# Altium schematic symbol library AK5572EN.SchLib: 1 symbol
Pins are listed as number, name and electrical type; pins without a type are passive.

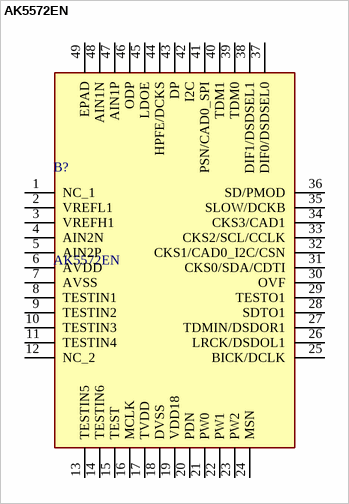
[diagram p0: symbol AK5572EN]

## AK5572EN
designator B?
IC ADC/AUDIO 32BIT 768K 48QFN; Manufacturer_Name: Asahi Kasei Microdevices; Geometry.Height: 1mm; Manufacturer_Part_Number: AK5572EN; Mouser Part Number: 412-AK5572EN; Mouser Price/Stock: https://www.mouser.co.uk/ProductDetail/Asahi-Kasei-Microdevices/AK5572EN?qs=vvQtp7zwQdN5nUCcqQXzfA%3D%3D; Arrow Part Number: AK5572EN; Arrow Price/Stock: https://www.arrow.com/en/products/ak5572en/asahi-kasei-microdevices-corporation?utm_currency=USD&region=nac; Datasheet Link: https://www.akm.com/akm/en/file/datasheet/AK5572EN.pdf
footprint QFN50P700X700X100-49N-D
pins: 1 NC_1, 2 VREFL1, 3 VREFH1, 4 AIN2N, 5 AIN2P, 6 AVDD, 7 AVSS, 8 TESTIN1, 9 TESTIN2, 10 TESTIN3, 11 TESTIN4, 12 NC_2, 13 TESTIN5, 14 TESTIN6, 15 TEST, 16 MCLK, 17 TVDD, 18 DVSS, 19 VDD18, 20 PDN, 21 PW0, 22 PW1, 23 PW2, 24 MSN, 25 BICK/DCLK, 26 LRCK/DSDOL1, 27 TDMIN/DSDOR1, 28 SDTO1, 29 TESTO1, 30 OVF, 31 CKS0/SDA/CDTI, 32 CKS1/CAD0_I2C/CSN, 33 CKS2/SCL/CCLK, 34 CKS3/CAD1, 35 SLOW/DCKB, 36 SD/PMOD, 37 DIF0/DSDSEL0, 38 DIF1/DSDSEL1, 39 TDM0, 40 TDM1, 41 PSN/CAD0_SPI, 42 I2C, 43 DP, 44 HPFE/DCKS, 45 LDOE, 46 ODP, 47 AIN1P, 48 AIN1N, 49 EPAD